# Altium footprint library clock_led.PcbLib: 50 footprints (part 1 of 4)
Each footprint in its own frame and in the unit in brackets; x right, y up, seen from the top. Pads: shape width x height; smd on the part's side, far side on the other; paste and mask are expansions set on the pad; w line width, h text height; cw(c..) or ccw(c..) is an arc to the next point about the centre after c.
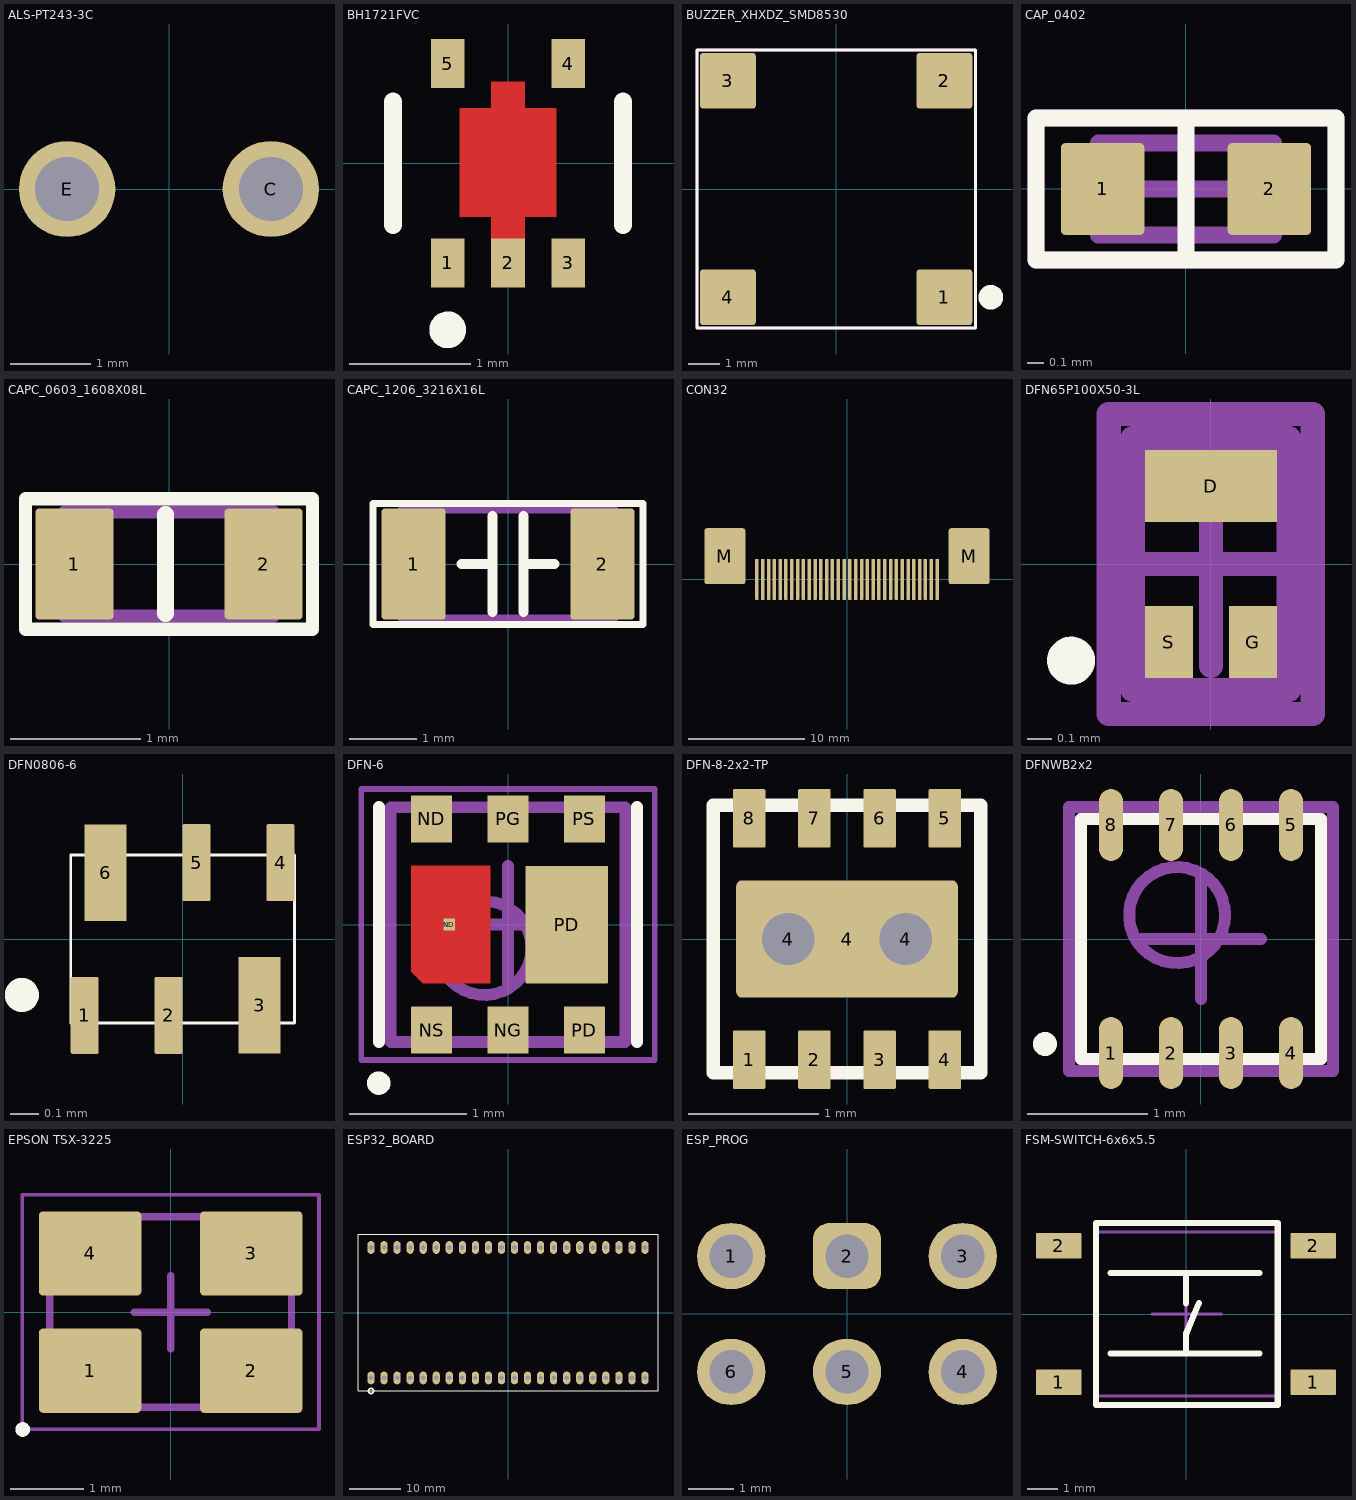
[diagram p0: the footprints below, top view; thin cyan lines are the x and y axes]

## ALS-PT243-3C [mm] "ALS-PT243-3C/L177"
pads (2):
  round 1.2 hole 0.8 paste-2539.97 mask+0: C(1.27,0) E(-1.27,0)
3D body "EVERLIGHT_ALS-PT243-3C.step": height 3.2, standoff -2, extent -2.5,-2.503 2.5,2.497

## BH1721FVC [mil]
pads (5):
  rect 11x16 smd paste+0 mask+0: 1(-19.68,-32.5) 2(0,-32.5) 3(19.68,-32.5) 4(19.68,32.5) 5(-19.68,32.5)
Top Layer:
  region: 5.5,-32.5 -5.5,-32.5 -5.5,-17.5 -15.75,-17.5 -15.75,17.91 -5.5,17.91 -5.5,26.48 5.5,26.48 5.5,17.91 15.75,17.91 15.75,-17.5 5.5,-17.5
Top Overlay:
  circle w6: c-19.68,-54.34 r3
  lines w6: -37.5,-20.03 -37.5,20.03 ; 37.5,-20.03 37.5,20.03
Top Paste:
  region: 5.5,-24.5 -5.5,-24.5 -5.5,-17.5 -15.75,-17.5 -15.75,17.91 -5.5,17.91 -5.5,26.48 5.5,26.48 5.5,17.91 15.75,17.91 15.75,-17.5 5.5,-17.5
Top Solder:
  region: 5.5,-24.5 -5.5,-24.5 -5.5,-17.5 -15.75,-17.5 -15.75,17.91 -5.5,17.91 -5.5,26.48 5.5,26.48 5.5,17.91 15.75,17.91 15.75,-17.5 5.5,-17.5
3D body "BH1721FVC-TR.stp": height 23.41, standoff -0.79, extent -31.5,-31.5 31.5,31.5

## BUZZER_XHXDZ_SMD8530 [mm]
pads (4):
  rrect10% 1.8x1.8 smd paste-2539.97 mask+0: 1(3.5,-3.5) 2(3.5,3.5) 3(-3.5,3.5) 4(-3.5,-3.5)
Top Overlay:
  circle w0.4: c5,-3.5 r0.2
  lines w0.102: -4.5,-4.5 4.5,-4.5 4.5,4.5 -4.5,4.5 -4.5,-4.5
Top Assembly:
  lines w0.102: -4.5,-4.5 4.5,-4.5 4.5,4.5 -4.5,4.5 -4.5,-4.5
Top Courtyard:
  lines w0.102: -4.5,-4.5 4.5,-4.5 4.5,4.5 -4.5,4.5 -4.5,-4.5
3D body "BUZZER_8530.step": height 3.01, standoff 0, extent -4.25,-4.25 4.25,4.261

## CAP_0402 [mm] "Chip Capacitor, 2-Leads, Body 1.00x0.50mm, IPC Medium Density"
height 0.5
pads (2):
  rrect10% 0.5x0.55 smd: 1(-0.5,0) 2(0.5,0)
Top Overlay:
  lines w0.102: 0,-0.425 0,0.425 ; -0.9,-0.425 -0.9,0.425 0.9,0.425 0.9,-0.425 -0.9,-0.425
Top Assembly:
  lines w0.102: -0.525,-0.275 -0.525,0.275 0.525,0.275 0.525,-0.275 -0.525,-0.275
Top Courtyard:
  lines w0.1: -0.275,0 0.275,0 ; 0,-0.275 0,0.275
  lines w0.102: -0.9,-0.425 -0.9,0.425 0.9,0.425 0.9,-0.425 -0.9,-0.425
3D body "CAP_0402.step": height 0.5, standoff 0, extent -0.525,-0.275 0.525,0.275

## CAPC_0603_1608X08L [mm] "Chip Capacitor 0603"
height 0.8
pads (2):
  rrect10% 0.6x0.85 smd: 1(-0.725,0) 2(0.725,0)
Top Overlay:
  lines w0.102: -1.1,-0.5 1.1,-0.5 1.1,0.5 -1.1,0.5 -1.1,-0.5
  lines w0.127: -0.027,-0.381 -0.027,0.381
Top Assembly:
  lines w0.1: -0.8,-0.4 -0.8,0.4 0.8,0.4 0.8,-0.4 -0.8,-0.4
3D body "CAPC_0603_1608X08L.step": height 0.8, standoff 0, extent -0.8,-0.4 0.8,0.4

## CAPC_1206_3216X16L [mm] "Chip Capacitor 1206"
height 1.6
pads (2):
  rrect10% 0.95x1.65 smd: 1(-1.4,0) 2(1.4,0)
Top Overlay:
  lines w0.102: -2,-0.9 2,-0.9 2,0.9 -2,0.9 -2,-0.9
  lines w0.152: -0.686,0 -0.229,0 ; -0.229,-0.711 -0.229,0.711 ; 0.229,-0.711 0.229,0.711 ; 0.229,0 0.686,0
Top Assembly:
  lines w0.1: -1.6,-0.8 -1.6,0.8 1.6,0.8 1.6,-0.8 -1.6,-0.8
3D body "CAPC_1206_3216X16L.step": height 1.6, standoff 0, extent -1.6,-0.8 1.6,0.8

## CON32 [mm]
pads (34):
  rrect10% 0.3x3.5 smd: A0(-7.75,0) A1(-7.25,0) A2(-6.75,0) A3(-6.25,0) A4(-5.75,0) A5(-5.25,0) A6(-4.75,0) A7(-4.25,0) A8(-3.75,0) A9(-3.25,0) A10(-2.75,0) A11(-2.25,0) A12(-1.75,0) A13(-1.25,0) A14(-0.75,0) A15(-0.25,0) K0(7.75,0) K1(7.25,0) K2(6.75,0) K3(6.25,0) K4(5.75,0) K5(5.25,0) K6(4.75,0) K7(4.25,0) K8(3.75,0) K9(3.25,0) K10(2.75,0) K11(2.25,0) K12(1.75,0) K13(1.25,0) K14(0.75,0) K15(0.25,0)
  rrect10% 3.5x4.8 smd mask+0: M(-10.5,2) M(10.5,2)
3D body "FPC-05FB-32PH20 - FPC-05FB-32PH20.step": height 2.96, standoff -0.01, extent -9.75,-0.1 9.75,5.3

## DFN65P100X50-3L [mm] "DFN, 3-Leads, Body 0.60x1.00mm, Pitch 0.65mm, IPC High Density"
height 0.5
pads (3):
  rect 0.55x0.3 smd: D(0,0.325)
  rect 0.2x0.3 smd: G(0.175,-0.325) S(-0.175,-0.325)
Top Overlay:
  circle w0.1: c-0.582,-0.403 r0.05
Top Assembly:
  lines w0.102: -0.325,-0.525 -0.325,0.525 0.325,0.525 0.325,-0.525 -0.325,-0.525
Top Courtyard:
  lines w0.1: -0.425,0 0.425,0 ; 0,-0.425 0,0.425
  lines w0.102: -0.425,-0.625 -0.425,0.625 0.425,0.625 0.425,-0.625 -0.425,-0.625
3D body "DFN65P100X50-3L.step": height 0.5, standoff 0, extent -0.325,-0.525 0.325,0.525

## DFN0806-6 [mm]
pads (6):
  rrect10% 0.1x0.275 smd: 1(-0.35,-0.273) 2(-0.05,-0.273) 4(0.35,0.273) 5(0.05,0.273)
  rect 0.15x0.345 smd: 3(0.275,-0.237) 6(-0.275,0.237)
Top Overlay:
  circle w0.102: c-0.575,-0.2 r0.01
  lines w0.01: -0.4,-0.3 -0.4,0.3 0.4,0.3 0.4,-0.3 -0.4,-0.3
3D body "NP-TINY3.step": height 0.38, standoff 0, extent -0.4,-0.31 0.4,0.31

## DFN-6 [mm] "PSON, 6-Leads, Body 2.00x2.00mm, Pitch 0.65mm, IPC Medium Density"
height 0.75
pads (8):
  rrect1% 0.35x0.4 smd: ND(-0.65,0.9) NG(0,-0.9) NS(-0.65,-0.9) PD(0.65,-0.9) PG(0,0.9) PS(0.65,0.9)
  rect 0.1x0.1 smd: ND(-0.5,0)
  rrect1% 0.7x1 smd: PD(0.5,0)
Top Layer:
  region: -0.825,0.5 -0.15,0.5 -0.15,-0.5 -0.725,-0.5 -0.825,-0.4
Top Overlay:
  circle w0.1: c-1.101,-1.351 r0.05
  lines w0.102: -1.101,-1 -1.101,1 ; 1.101,-1 1.101,1
Top Assembly:
  circle w0.1: c-0.2,-0.2 r0.4
  lines w0.1: -1,-1 -1,1 1,1 1,-1 -1,-1
Top Courtyard:
  lines w0.05: -1.25,-1.155 -1.25,1.155 1.25,1.155 1.25,-1.155 -1.25,-1.155
  lines w0.1: -0.5,0 0.5,0 ; 0,-0.5 0,0.5
3D body "DFN-6.step": height 0.66, standoff 0, extent -1,-1.01 1,1.01

## DFN-8-2x2-TP [mm]
pads (11):
  rrect10% 0.25x0.45 smd paste-2539.97 mask+0: 1(-0.75,-0.925) 2(-0.25,-0.925) 3(0.25,-0.925) 4(0.75,-0.925) 5(0.75,0.925) 6(0.25,0.925) 7(-0.25,0.925) 8(-0.75,0.925)
  round 0.7 hole 0.4 paste-2539.97 mask+0: 4(-0.45,0) 4(0.45,0)
  rrect10% 1.7x0.9 smd mask+0: 4(0,0)
Top Overlay:
  lines w0.102: -1.025,-1.025 1.025,-1.025 1.025,1.025 -1.025,1.025 -1.025,-1.025
3D body "DFN-8_2x2-EP.step": height 0.55, standoff 0, extent -0.99,-1 0.99,1

## DFNWB2x2 [mm]
height 0.6
pads (8):
  oval 0.2x0.6 smd: 1(-0.75,-0.95) 2(-0.25,-0.95) 3(0.25,-0.95) 4(0.75,-0.95) 5(0.75,0.95) 6(0.25,0.95) 7(-0.25,0.95) 8(-0.75,0.95)
Top Overlay:
  circle w0.1: c-1.3,-0.875 r0.05
  lines w0.102: -1,-1 1,-1 1,1 -1,1 -1,-1
Top Assembly:
  circle w0.1: c-0.199,0.199 r0.4
  lines w0.102: -1,-1 1,-1 1,1 -1,1 -1,-1
Top Courtyard:
  lines w0.1: -0.5,0 0.5,0 ; 0,-0.5 0,0.5
  lines w0.102: -1.1,-1.1 1.1,-1.1 1.1,1.1 -1.1,1.1 -1.1,-1.1
3D body "DFNWB2x2.step": height 0.6, standoff 0, extent -1,-1 1,1

## EPSON TSX-3225 [mm] "Crystal, 4-Leads, Body 2.50x3.20mm, Pitch 2.20mm, IPC Medium Density"
height 0.6
pads (4):
  rrect10% 1.4x1.15 smd: 1(-1.1,-0.8) 2(1.1,-0.8) 3(1.1,0.8) 4(-1.1,0.8)
Top Overlay:
  circle w0.1: c-2.02,-1.602 r0.05
Mechanical 13:
  lines w0.1: -1.65,-1.3 1.65,-1.3 1.65,1.3 -1.65,1.3 -1.65,-1.3
Mechanical 15:
  lines w0.05: -2.025,-1.6 2.025,-1.6 2.025,1.6 -2.025,1.6 -2.025,-1.6
  lines w0.1: -0.5,0 0.5,0 ; 0,-0.5 0,0.5
3D body "Epson TSX-3225.STEP": height 0.6, standoff 0, extent -1.61,-1.26 1.61,1.26

## ESP32_BOARD [mm]
pads (44):
  oval 1.4x2.5 hole 0.9: 1(-26.67,-12.7) 2(-24.13,-12.7) 3(-21.59,-12.7) 4(-19.05,-12.7) 5(-16.51,-12.7) 6(-13.97,-12.7) 7(-11.43,-12.7) 8(-8.89,-12.7) 9(-6.35,-12.7) 10(-3.81,-12.7) 11(-1.27,-12.7) 12(1.27,-12.7) 13(3.81,-12.7) 14(6.35,-12.7) 15(8.89,-12.7) 16(11.43,-12.7) 17(13.97,-12.7) 18(16.51,-12.7) 19(19.05,-12.7) 20(21.59,-12.7) 21(24.13,-12.7) 22(26.67,-12.7) 23(26.67,12.7) 24(24.13,12.7) 25(21.59,12.7) 26(19.05,12.7) 27(16.51,12.7) 28(13.97,12.7) 29(11.43,12.7) 30(8.89,12.7) 31(6.35,12.7) 32(3.81,12.7) 33(1.27,12.7) 34(-1.27,12.7) 35(-3.81,12.7) 36(-6.35,12.7) 37(-8.89,12.7) 38(-11.43,12.7) 39(-13.97,12.7) 40(-16.51,12.7) 41(-19.05,12.7) 42(-21.59,12.7) 43(-24.13,12.7) 44(-26.67,12.7)
Top Overlay:
  circle w0.254: c-26.67,-15.24 r0.5
  lines w0.102: -29.21,-15.24 29.21,-15.24 29.21,15.24 -29.21,15.24 -29.21,-15.24

## ESP_PROG [mm]
pads (6):
  oval 1.5x1.45 hole 0.95: 1(-2.54,1.265) 3(2.54,1.265) 4(2.54,-1.275) 5(0,-1.275) 6(-2.54,-1.275)
  rrect50% 1.5x1.45 hole 0.95: 2(0,1.265)

## FSM-SWITCH-6x6x5.5 [mm]
pads (4):
  rrect10% 1.5x0.85 smd: 1(-4.2,-2.25) 1(4.2,-2.25) 2(-4.2,2.25) 2(4.2,2.25)
Top Overlay:
  lines w0.2: -2.972,3 -2.972,-3 3.028,-3 3.028,3
  lines w0.203: -2.972,3 3.028,3 ; -2.487,-1.3 2.416,-1.3 ; -2.487,1.35 2.416,1.35 ; 0,-1.3 0,-0.66 0.425,0.353 ; 0,0.353 0,1.35
Top Assembly:
  lines w0.1: -2.972,-2.7 -2.972,2.7 3.028,2.7 3.028,-2.7 -2.972,-2.7
  lines w0.102: -1.115,0 0.028,0 ; 0,-1.115 0,0 ; 0,1.013 0,0 ; 1.171,0 0,0
3D body "SW-SMD-6x6x5.5.step": height 5.5, standoff 0, extent -4.5,-3.05 4.5,3.051